# Altium footprint library CM5IO.PcbLib: 12 footprints
Each footprint in its own frame and in the unit in brackets; x right, y up, seen from the top. Pads: shape width x height; smd on the part's side, far side on the other; paste and mask are expansions set on the pad; w line width, h text height; cw(c..) or ccw(c..) is an arc to the next point about the centre after c.
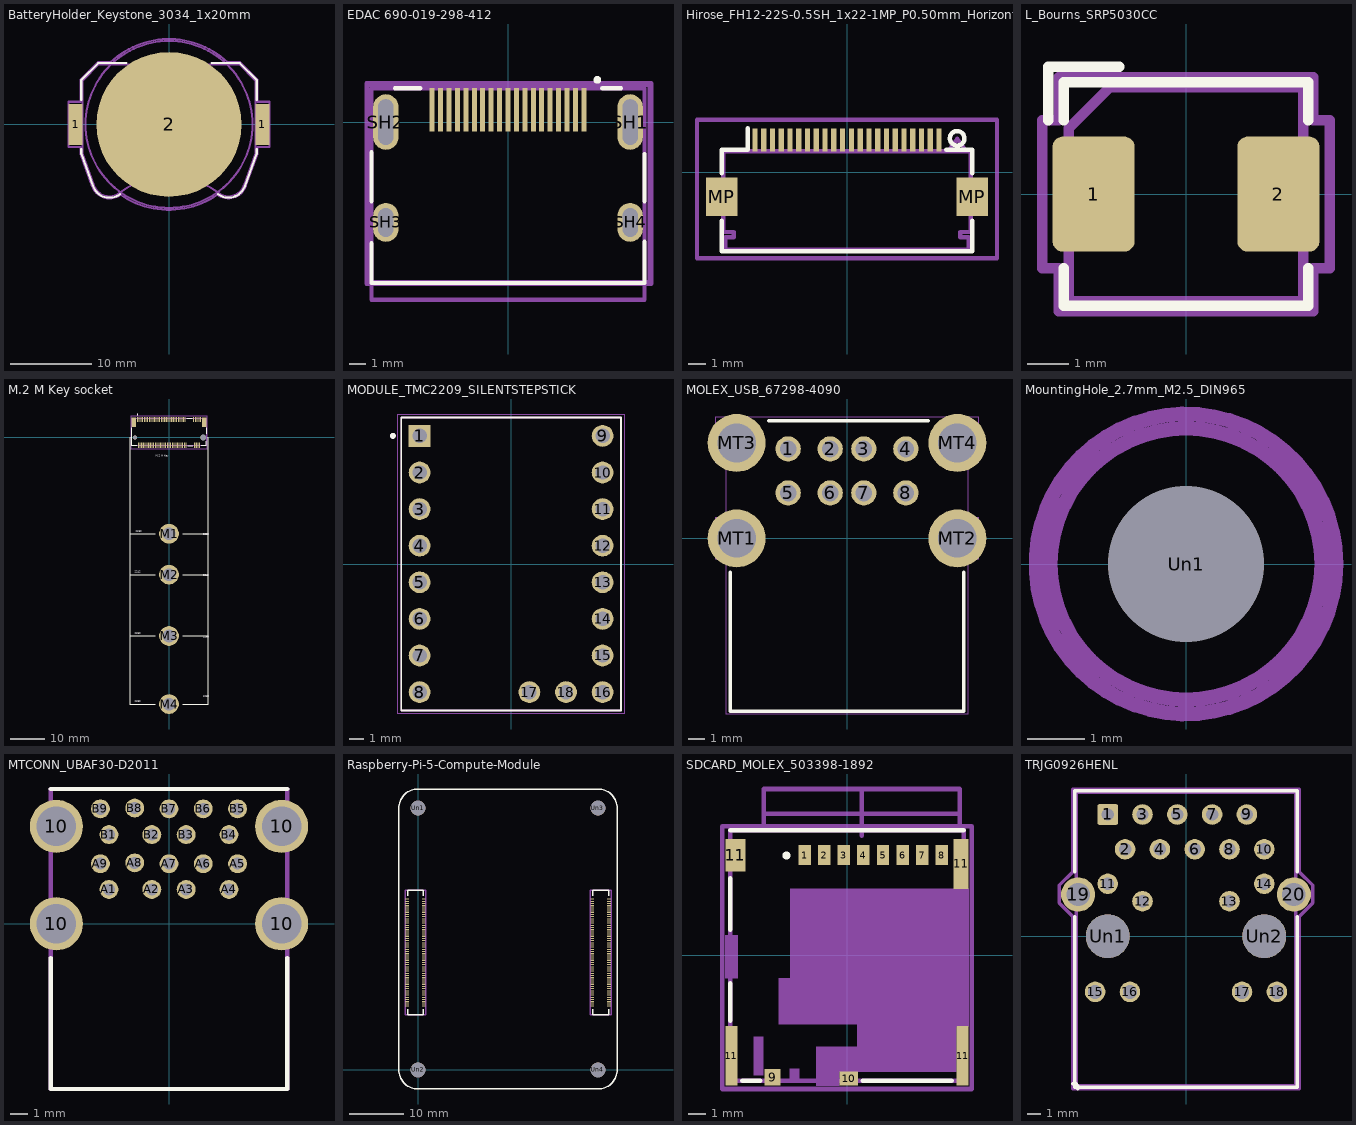
[diagram p0: the footprints below, top view; thin cyan lines are the x and y axes]

## BatteryHolder_Keystone_3034_1x20mm [mm]
pads (3):
  rect 1.77x5.08 smd: 1(-11.485,0) 1(11.485,0)
  round 17.8 smd: 2(0,0)
F.SilkS:
  lines w0.254: -10.78,-3 -10.78,-3.63 -9.34,-7.58 ccw(c-7.31,-6.85) -6.003,-8.567 ; -10.78,3 -10.78,5.46 -8.7,7.54 -5.2,7.54 ; 5.2,7.54 8.7,7.54 10.78,5.46 10.78,3 ; 6,-8.55 ccw(c7.31,-6.85) 9.325,-7.588 ; 9.34,-7.58 10.78,-3.63 10.78,-3
F.Fab:
  lines w0.254: -6.096,-8.439 cw(c-7.31,-6.85) -9.19,-7.53 -10.63,-3.6 -10.63,5.4 -8.64,7.39 8.64,7.39 10.63,5.4 10.63,-3.6 9.19,-7.53 ; -6.095,-8.426 cw(c0,-16.36) 6.1,-8.43 ccw(c7.31,-6.85) 9.181,-7.529
  text "'.Designator'" at -1.437,2.502 h1
F.CrtYd:
  lines w0.254: -9.44,-7.62 -10.88,-3.64 -10.88,-2.79 -12.37,-2.79 -12.37,2.79 -10.88,2.79 -10.88,5.5 -8.74,7.64 -7.2,7.64 cw(c0,0) 7.2,7.64 8.74,7.64 10.88,5.5 10.88,2.79 12.37,2.79 12.37,-2.79 10.88,-2.79 10.88,-3.64 9.43,-7.63 ; -9.43,-7.62 ccw(c-7.31,-6.85) -5.957,-8.655 ; -5.96,-8.64 ccw(c0,0) 5.945,-8.65 ; 5.96,-8.64 ccw(c7.31,-6.85) 9.415,-7.621
Dwgs.User:
  circle w0.254: c0,0 r10.25

## EDAC 690-019-298-412 [mm]
pads (23):
  rect 0.3x2.6 smd: 1(4.5,0.73) 2(4,0.73) 3(3.5,0.73) 4(3,0.73) 5(2.5,0.73) 6(2,0.73) 7(1.5,0.73) 8(1,0.73) 9(0.5,0.73) 10(0,0.73) 11(-0.5,0.73) 12(-1,0.73) 13(-1.5,0.73) 14(-2,0.73) 15(-2.5,0.73) 16(-3,0.73) 17(-3.5,0.73) 18(-4,0.73) 19(-4.5,0.73)
  rrect100% 1.5x3.3 hole 2.7 slot 0.9 at 0 deg: SH1(7.25,0) SH2(-7.25,0)
  rrect100% 1.5x2.3 hole 1.7 slot 0.9 at 0 deg: SH3(-7.25,-5.96) SH4(7.25,-5.96)
F.SilkS:
  circle w0.254: c5.3,2.5 r0.1
  lines w0.254: -8.1,-7.2 -8.1,-9.55 8.1,-9.55 8.1,-7.1 ; -8.1,-4.7 -8.1,-1.8 ; -6.7,2 -5.2,2 ; 5.6,2 6.7,2 ; 8.1,-4.7 8.1,-1.9
F.CrtYd:
  lines w0.254: -8.4,-9.6 -8.4,2.3 8.5,2.3 8.5,-9.6 -8.4,-9.6
Eco2.User:
  lines w0.254: -8.1,-10.55 -8.1,-8.5 -8.1,2 8.1,2 8.1,-8.5 8.1,-10.55 -8.1,-10.55
Eco1.User:
  lines w0.254: -8.35,-9.5 -8.35,-8.5 -8.35,2.2 8.4,2.2 8.4,-9.5 -8.35,-9.5

## Hirose_FH12-22S-0.5SH_1x22-1MP_P0.50mm_Horizontal [mm]
pads (24):
  rect 0.3x1.3 smd: 1(5.25,1.85) 2(4.75,1.85) 3(4.25,1.85) 4(3.75,1.85) 5(3.25,1.85) 6(2.75,1.85) 7(2.25,1.85) 8(1.75,1.85) 9(1.25,1.85) 10(0.75,1.85) 11(0.25,1.85) 12(-0.25,1.85) 13(-0.75,1.85) 14(-1.25,1.85) 15(-1.75,1.85) 16(-2.25,1.85) 17(-2.75,1.85) 18(-3.25,1.85) 19(-3.75,1.85) 20(-4.25,1.85) 21(-4.75,1.85) 22(-5.25,1.85)
  rect 1.8x2.2 smd: MP(-7.15,-1.4) MP(7.15,-1.4)
F.SilkS:
  circle w0.254: c6.28,1.94 r0.414
  lines w0.254: -7.15,-2.76 -7.15,-4.5 7.15,-4.5 7.15,-2.76 ; -7.15,-0.04 -7.15,1.3 -5.66,1.3 -5.66,2.5 ; 5.66,1.3 7.15,1.3 7.15,-0.04
F.Fab:
  lines w0.254: 5.79,1.203 6.29,1.91 6.79,1.203 ; -7.05,-3.4 -7.05,1.2 0,1.2 7.05,1.2 7.05,-3.4 6.45,-3.4 6.45,-3.7 6.95,-3.7 6.95,-4.4 0,-4.4 -6.95,-4.4 -6.95,-3.7 -6.45,-3.7 -6.45,-3.4 -7.05,-3.4
  text "'.Designator'" at -1.437,-4.098 h1
F.CrtYd:
  lines w0.254: -8.55,-4.9 -8.55,3 8.55,3 8.55,-4.9 -8.55,-4.9

## L_Bourns_SRP5030CC [mm]
pads (2):
  rrect25% 2x2.8 smd: 1(-2.25,0) 2(2.25,0)
F.SilkS:
  lines w0.254: -3.35,1.8 -3.35,3.1 -1.62,3.1 ; -2.97,-1.8 -2.97,-2.72 2.97,-2.72 2.97,-1.8 ; -2.97,1.8 -2.97,2.72 2.97,2.72 2.97,1.8
F.Fab:
  lines w0.254: -2.85,-2.6 -2.85,1.6 -1.85,2.6 2.85,2.6 2.85,-2.6 -2.85,-2.6
  text "'.Designator'" at -1.437,-0.398 h1
F.CrtYd:
  lines w0.254: -3.5,-1.8 -3.5,1.8 -3.1,1.8 -3.1,2.85 3.1,2.85 3.1,1.8 3.5,1.8 3.5,-1.8 3.1,-1.8 3.1,-2.85 -3.1,-2.85 -3.1,-1.8 -3.5,-1.8

## M.2 M Key socket [mm]
pads (75):
  rect 0.3x1.55 smd: 1(-9.25,5.275) 2(-9,-2.275) 3(-8.75,5.275) 4(-8.5,-2.275) 5(-8.25,5.275) 6(-8,-2.275) 7(-7.75,5.275) 8(-7.5,-2.275) 9(-7.25,5.275) 10(-7,-2.275) 11(-6.75,5.275) 12(-6.5,-2.275) 13(-6.25,5.275) 14(-6,-2.275) 15(-5.75,5.275) 16(-5.5,-2.275) 17(-5.25,5.275) 18(-5,-2.275) 19(-4.75,5.275) 20(-4.5,-2.275) 21(-4.25,5.275) 22(-4,-2.275) 23(-3.75,5.275) 24(-3.5,-2.275) 25(-3.25,5.275) 26(-3,-2.275) 27(-2.75,5.275) 28(-2.5,-2.275) 29(-2.25,5.275) 30(-2,-2.275) 31(-1.75,5.275) 32(-1.5,-2.275) 33(-1.25,5.275) 34(-1,-2.275) 35(-0.75,5.275) 36(-0.5,-2.275) 37(-0.25,5.275) 38(0,-2.275) 39(0.25,5.275) 40(0.5,-2.275) 41(0.75,5.275) 42(1,-2.275) 43(1.25,5.275) 44(1.5,-2.275) 45(1.75,5.275) 46(2,-2.275) 47(2.25,5.275) 48(2.5,-2.275) 49(2.75,5.275) 50(3,-2.275) 51(3.25,5.275) 52(3.5,-2.275) 53(3.75,5.275) 54(4,-2.275) 55(4.25,5.275) 56(4.5,-2.275) 57(4.75,5.275) 58(5,-2.275) 67(7.25,5.275) 68(7.5,-2.275) 69(7.75,5.275) 70(8,-2.275) 71(8.25,5.275) 72(8.5,-2.275) 73(8.75,5.275) 74(9,-2.275) 75(9.25,5.275)
  round 5.8 hole 3.7: M1(0,-28.25) M2(0,-40.25) M3(0,-58.25) M4(0,-78.25)
  rect 1.2x2.75 smd: S1(-10.35,4.5) S2(10.35,4.5)
  round 1.15 hole 1.15: Un1(-10,0)
  round 1.65 hole 1.65: Un2(10,0)
F.SilkS:
  circle w0.254: c-9.25,6.796 r0.1
  lines w0.254: -11.5,-58.25 -4,-58.25 ; -11.5,-40.25 -4,-40.25 ; -11.5,-28.25 -4,-28.25 ; -11.5,0 -11.5,-78.25 -4,-78.25 ; -11,2.805 -11,-2.48 -9.47,-2.48 ; 4,-78.25 11.5,-78.25 11.5,0 ; 4,-58.25 11.5,-58.25 ; 4,-40.25 11.5,-40.25 ; 4,-28.25 11.5,-28.25 ; 5.213,5.7 6.776,5.7 ; 5.463,-2.48 7.027,-2.48 ; 9.47,-2.48 11,-2.48 11,-1.145 ; 11,1.145 11,2.805
  text "2280" at 10,-76.535 h1
  text "2230" at 10,-29.035 h1
  text "M.2 M Key" at -3.9,-5.881 h1
  text "2280" at -10,-78.035 h1
  text "2242" at 10,-41.03 h1
  text "2260" at -10,-58.035 h1
  text "2230" at -9.75,-28.035 h1
  text "2260" at 10,-59.035 h1
  text "2242" at -10,-40.03 h1
F.Fab:
  circle w0.254: c-9.25,6.796 r0.1
  lines w0.254: -11,-2.48 -11,5.7 11,5.7 11,-2.48 -11,-2.48
F.CrtYd:
  lines w0.254: -11.25,-3.3 -11.25,6.3 11.25,6.3 11.25,-3.3 -11.25,-3.3

## MODULE_TMC2209_SILENTSTEPSTICK [mm]
pads (18):
  rect 1.508x1.508 hole 1: 1(-6.35,8.89)
  round 1.508 hole 1: 2(-6.35,6.35) 3(-6.35,3.81) 4(-6.35,1.27) 5(-6.35,-1.27) 6(-6.35,-3.81) 7(-6.35,-6.35) 8(-6.35,-8.89) 9(6.35,8.89) 10(6.35,6.35) 11(6.35,3.81) 12(6.35,1.27) 13(6.35,-1.27) 14(6.35,-3.81) 15(6.35,-6.35) 16(6.35,-8.89) 17(1.27,-8.89) 18(3.81,-8.89)
F.SilkS:
  circle w0.2: c-8.2,8.89 r0.1
  lines w0.127: -7.62,-10.16 -7.62,10.16 7.62,10.16 7.62,-10.16 -7.62,-10.16
F.Fab:
  circle w0.2: c-8.2,8.89 r0.1
  lines w0.127: -7.62,-10.16 -7.62,10.16 7.62,10.16 7.62,-10.16 -7.62,-10.16
F.CrtYd:
  lines w0.05: -7.87,-10.41 -7.87,10.41 7.87,10.41 7.87,-10.41 -7.87,-10.41

## MOLEX_USB_67298-4090 [mm]
pads (12):
  round 1.5 hole 1: 1(-3.5,5.33) 2(-1,5.33) 3(1,5.33) 4(3.5,5.33) 5(-3.5,2.71) 6(-1,2.71) 7(1,2.71) 8(3.5,2.71)
  round 3.45 hole 2.3: MT1(-6.57,0) MT2(6.57,0) MT3(-6.57,5.68) MT4(6.57,5.68)
F.SilkS:
  lines w0.2: -6.95,-2 -6.95,-10.29 6.95,-10.29 6.95,-2 ; -4.66,7 4.84,7
Eco1.User:
  lines w0.05: -7.8,-1.25 -7.8,1.25 -7.2,1.25 -7.2,4.5 -7.8,4.5 -7.8,7.25 7.8,7.25 7.8,4.5 7.2,4.5 7.2,1.25 7.8,1.25 7.8,-1.25 7.2,-1.25 7.2,-10.45 -7.2,-10.45 -7.2,-1.25 -7.8,-1.25

## MountingHole_2.7mm_M2.5_DIN965 [mm]
pads (1):
  round 2.7 hole 2.7: Un1(0,0)
F.Fab:
  text "'.Designator'" at -1.437,-0.398 h1
F.CrtYd:
  circle w0.254: c0,0 r2.6
Cmts.User:
  circle w0.254: c0,0 r2.35

## MTCONN_UBAF30-D2011 [mm]
pads (22):
  round 3.1 hole 2.3: 10(-6.57,0) 10(-6.57,5.68) 10(6.57,0) 10(6.57,5.68)
  round 1.1 hole 0.7: A1(-3.5,2) A2(-1,2) A3(1,2) A4(3.5,2) A5(4,3.5) A6(2,3.5) A7(0,3.5) A8(-2,3.55) A9(-4,3.5) B1(-3.5,5.2) B2(-1,5.2) B3(1,5.2) B4(3.5,5.2) B5(4,6.7) B6(2,6.7) B7(0,6.7) B8(-2,6.75) B9(-4,6.7)
F.SilkS:
  lines w0.254: -6.89,-2 -6.89,-9.64 6.89,-9.64 6.89,-2 ; -6.89,7.86 6.89,7.86
F.Fab:
  text "'.Designator'" at -1.437,-2.898 h1
F.CrtYd:
  lines w0.254: -6.89,-9.64 -6.89,7.86 6.89,7.86 6.89,-9.64 -6.89,-9.64

## Raspberry-Pi-5-Compute-Module [mm]
pads (204):
  rect 0.7x0.2 smd: 1(-2.04,31.3) 2(1.04,31.3) 3(-2.04,30.9) 4(1.04,30.9) 5(-2.04,30.5) 6(1.04,30.5) 7(-2.04,30.1) 8(1.04,30.1) 9(-2.04,29.7) 10(1.04,29.7) 11(-2.04,29.3) 12(1.04,29.3) 13(-2.04,28.9) 14(1.04,28.9) 15(-2.04,28.5) 16(1.04,28.5) 17(-2.04,28.1) 18(1.04,28.1) 19(-2.04,27.7) 20(1.04,27.7) 21(-2.04,27.3) 22(1.04,27.3) 23(-2.04,26.9) 24(1.04,26.9) 25(-2.04,26.5) 26(1.04,26.5) 27(-2.04,26.1) 28(1.04,26.1) 29(-2.04,25.7) 30(1.04,25.7) 31(-2.04,25.3) 32(1.04,25.3) 33(-2.04,24.9) 34(1.04,24.9) 35(-2.04,24.5) 36(1.04,24.5) 37(-2.04,24.1) 38(1.04,24.1) 39(-2.04,23.7) 40(1.04,23.7) 41(-2.04,23.3) 42(1.04,23.3) 43(-2.04,22.9) 44(1.04,22.9) 45(-2.04,22.5) 46(1.04,22.5) 47(-2.04,22.1) 48(1.04,22.1) 49(-2.04,21.7) 50(1.04,21.7) 51(-2.04,21.3) 52(1.04,21.3) 53(-2.04,20.9) 54(1.04,20.9) 55(-2.04,20.5) 56(1.04,20.5) 57(-2.04,20.1) 58(1.04,20.1) 59(-2.04,19.7) 60(1.04,19.7) 61(-2.04,19.3) 62(1.04,19.3) 63(-2.04,18.9) 64(1.04,18.9) 65(-2.04,18.5) 66(1.04,18.5) 67(-2.04,18.1) 68(1.04,18.1) 69(-2.04,17.7) 70(1.04,17.7) 71(-2.04,17.3) 72(1.04,17.3) 73(-2.04,16.9) 74(1.04,16.9) 75(-2.04,16.5) 76(1.04,16.5) 77(-2.04,16.1) 78(1.04,16.1) 79(-2.04,15.7) 80(1.04,15.7) 81(-2.04,15.3) 82(1.04,15.3) 83(-2.04,14.9) 84(1.04,14.9) 85(-2.04,14.5) 86(1.04,14.5) 87(-2.04,14.1) 88(1.04,14.1) 89(-2.04,13.7) 90(1.04,13.7) 91(-2.04,13.3) 92(1.04,13.3) 93(-2.04,12.9) 94(1.04,12.9) 95(-2.04,12.5) 96(1.04,12.5) 97(-2.04,12.1) 98(1.04,12.1) 99(-2.04,11.7) 100(1.04,11.7) 101(31.96,31.3) 102(35.04,31.3) 103(31.96,30.9) 104(35.04,30.9) 105(31.96,30.5) 106(35.04,30.5) 107(31.96,30.1) 108(35.04,30.1) 109(31.96,29.7) 110(35.04,29.7) 111(31.96,29.3) 112(35.04,29.3) 113(31.96,28.9) 114(35.04,28.9) 115(31.96,28.5) 116(35.04,28.5) 117(31.96,28.1) 118(35.04,28.1) 119(31.96,27.7) 120(35.04,27.7) 121(31.96,27.3) 122(35.04,27.3) 123(31.96,26.9) 124(35.04,26.9) 125(31.96,26.5) 126(35.04,26.5) 127(31.96,26.1) 128(35.04,26.1) 129(31.96,25.7) 130(35.04,25.7) 131(31.96,25.3) 132(35.04,25.3) 133(31.96,24.9) 134(35.04,24.9) 135(31.96,24.5) 136(35.04,24.5) 137(31.96,24.1) 138(35.04,24.1) 139(31.96,23.7) 140(35.04,23.7) 141(31.96,23.3) 142(35.04,23.3) 143(31.96,22.9) 144(35.04,22.9) 145(31.96,22.5) 146(35.04,22.5) 147(31.96,22.1) 148(35.04,22.1) 149(31.96,21.7) 150(35.04,21.7) 151(31.96,21.3) 152(35.04,21.3) 153(31.96,20.9) 154(35.04,20.9) 155(31.96,20.5) 156(35.04,20.5) 157(31.96,20.1) 158(35.04,20.1) 159(31.96,19.7) 160(35.04,19.7) 161(31.96,19.3) 162(35.04,19.3) 163(31.96,18.9) 164(35.04,18.9) 165(31.96,18.5) 166(35.04,18.5) 167(31.96,18.1) 168(35.04,18.1) 169(31.96,17.7) 170(35.04,17.7) 171(31.96,17.3) 172(35.04,17.3) 173(31.96,16.9) 174(35.04,16.9) 175(31.96,16.5) 176(35.04,16.5) 177(31.96,16.1) 178(35.04,16.1) 179(31.96,15.7) 180(35.04,15.7) 181(31.96,15.3) 182(35.04,15.3) 183(31.96,14.9) 184(35.04,14.9) 185(31.96,14.5) 186(35.04,14.5) 187(31.96,14.1) 188(35.04,14.1) 189(31.96,13.7) 190(35.04,13.7) 191(31.96,13.3) 192(35.04,13.3) 193(31.96,12.9) 194(35.04,12.9) 195(31.96,12.5) 196(35.04,12.5) 197(31.96,12.1) 198(35.04,12.1) 199(31.96,11.7) 200(35.04,11.7)
  round 2.7 hole 2.7: Un1(0,48) Un2(0,0) Un3(33,48) Un4(33,0)
F.SilkS:
  lines w0.254: -1.86,11.1 -1.86,10.1 0.94,10.1 0.94,11.1 ; -1.86,31.9 -1.86,32.9 0.94,32.9 0.94,31.9 ; 32.06,11.1 32.06,10.1 34.94,10.1 34.94,11.1 ; 32.06,31.9 32.06,32.9 34.94,32.9 34.94,31.9 ; -3.5,0 -3.5,48 cw(c0,48) 0,51.5 33,51.5 cw(c33,48) 36.5,48 36.5,0 cw(c33,0) 33,-3.5 0,-3.5 cw(c0,0) -3.5,0
F.CrtYd:
  lines w0.254: -2.31,10.1 -2.31,32.9 1.39,32.9 1.39,10.1 -2.31,10.1 ; 31.61,10.1 31.61,32.9 35.39,32.9 35.39,10.1 31.61,10.1

## SDCARD_MOLEX_503398-1892 [mm]
pads (14):
  rect 0.7x1.1 smd: 1(-2.38,5.625) 2(-1.28,5.625) 3(-0.18,5.625) 4(0.92,5.625) 5(2.02,5.625) 6(3.12,5.625) 7(4.22,5.625) 8(5.32,5.625)
  rect 0.9x0.93 smd: 9(-4.17,-6.84)
  rect 1.05x0.78 smd: 10(0.095,-6.915)
  rect 0.7x3.33 smd: 11(-6.48,-5.64) 11(6.48,-5.64)
  rect 1.14x1.83 smd: 11(-6.26,5.61)
  rect 0.86x2.8 smd: 11(6.4,5.125)
F.SilkS:
  circle w0.254: c-3.4,5.6 r0.1
  lines w0.254: -6.55,-3.675 -6.55,-1.575 ; -6.55,1.425 -6.55,4.325 ; -6.55,7.025 6.55,7.025 ; -5.876,-7.025 -4.874,-7.025 ; 0.874,-7.025 5.876,-7.025
F.Fab:
  circle w0.254: c-2.38,5.775 r0.1
  lines w0.254: -6.55,-7.025 -6.55,7.025 6.55,7.025 6.55,-7.025 -6.55,-7.025
F.CrtYd:
  lines w0.254: -7,-7.5 -7,7.25 7,7.25 7,-7.5 -7,-7.5
Dwgs.User:
  region: -6.13,-1.277 -6.842,-1.277 -6.842,1.125 -6.13,1.125
  region: -6.13,-1.276 -6.836,-1.276 -6.836,1.125 -6.13,1.125
  region: -4.685,-6.738 -5.245,-6.738 -5.245,-4.575 -4.685,-4.575
  region: -4.685,-6.73 -5.239,-6.73 -5.239,-4.575 -4.685,-4.575
  region: -2.67,-6.937 -3.225,-6.937 -3.225,-6.375 -2.67,-6.375
  region: -2.67,-6.93 -3.223,-6.93 -3.223,-6.375 -2.67,-6.375
  region: 6.83,-3.975 6.13,-3.975 6.13,-6.525 -0.43,-6.525 -0.43,-7.305 -1.73,-7.305 -1.73,-5.125 0.57,-5.125 0.57,-3.875 -3.82,-3.875 -3.82,-1.275 -3.17,-1.275 -3.17,3.725 6.83,3.725
  region: 6.83,-3.975 6.13,-3.975 6.13,-6.525 -0.43,-6.525 -0.43,-7.305 -1.73,-7.305 -1.73,-5.125 0.57,-5.125 0.57,-3.875 -3.82,-3.875 -3.82,-1.275 -3.17,-1.275 -3.17,3.725 6.83,3.725
  lines w0.254: -4.67,7.28 -4.67,9.33 6.33,9.33 6.33,7.35 ; -4.67,7.93 6.33,7.93 ; 0.83,6.7 0.83,9.33

## TRJG0926HENL [mm]
pads (22):
  rrect17% 1.5x1.5 hole 0.9: 1(-5.715,8.89)
  round 1.5 hole 0.9: 2(-4.445,6.35) 3(-3.175,8.89) 4(-1.905,6.35) 5(-0.635,8.89) 6(0.635,6.35) 7(1.905,8.89) 8(3.175,6.35) 9(4.445,8.89) 10(5.715,6.35) 11(-5.715,3.83) 12(-3.175,2.56) 13(3.175,2.56) 14(5.715,3.83)
  round 1.5 hole 1.02: 15(-6.63,-4.06) 16(-4.09,-4.06) 17(4.09,-4.06) 18(6.63,-4.06)
  round 2.5 hole 1.7: 19(-7.875,3.05) 20(7.875,3.05)
  round 3.2 hole 3.2: Un1(-5.715,0) Un2(5.715,0)
F.SilkS:
  lines w0.254: -8.25,-10.75 -8,-10.75 ; -8.12,1.43 -8.12,-11.02 8.12,-11.02 8.12,1.43 ; -8.12,4.71 -8.12,10.62 8.12,10.62 8.12,4.71 ; -7.9,-11.15 -7.9,-10.9
F.Fab:
  lines w0.254: -8,0 -8,10.5 8,10.5 8,-10.9 -8,-10.9 -8,5.37
  text "'.Designator'" at -1.437,-0.398 h1
F.CrtYd:
  lines w0.254: -9.25,2.43 -9.25,3.71 -8.25,4.71 -8.25,10.75 8.25,10.75 8.25,4.71 9.25,3.71 9.25,2.43 8.25,1.43 8.25,-11.15 -8.25,-11.15 -8.25,1.43 -9.25,2.43